# EAGLE library part CONN:DB9 (library QuantumOptics)
D-Type DB-9, AKA DB-9.
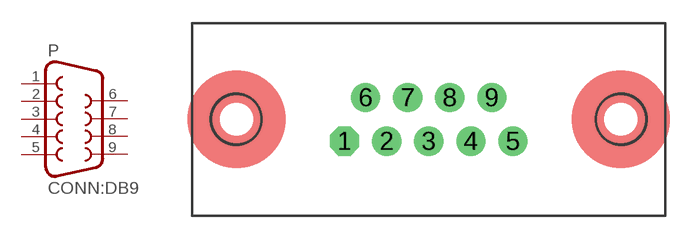
[diagram p15: symbol with the pads of CONN:DB9-H/V1; footprint CONN:DB9-H/V1]

Designator prefix P

## CONN:DB9H  [CONN:DB9-H/V1]
1  1  pas
2  2  pas
3  3  pas
4  4  pas
5  5  pas
6  6  pas
7  7  pas
8  8  pas
9  9  pas

## Footprint CONN:DB9-H/V1 (pad centres in mm)
SUB-D9, AKA DB-9, fits AMP 8.08mm mount such as 745131 (plastic F, horiz), 5745781 (steel F, horiz), 5747250 (steel M, horiz). or 5747089-2 (steel, vert) http://documents.tycoelectronics.com/commerce/DocumentDelivery/DDEController?Action=srchrtrv&DocNm=5745781&DocType=CD&DocLang=EN
drill 1.067 pad 1.905 octagon: 1 -5.48,-1.42
drill 1.067 pad 1.905: 2 -2.74,-1.42; 3 0,-1.42; 4 2.74,-1.42; 5 5.48,-1.42; 6 -4.11,1.42; 7 -1.37,1.42; 8 1.37,1.42; 9 4.11,1.42
hole 3.175 at -12.5,0
hole 3.175 at 12.5,0